# Altium schematic symbol library MI_Personal.SchLib: 995 symbols (part 11 of 12)
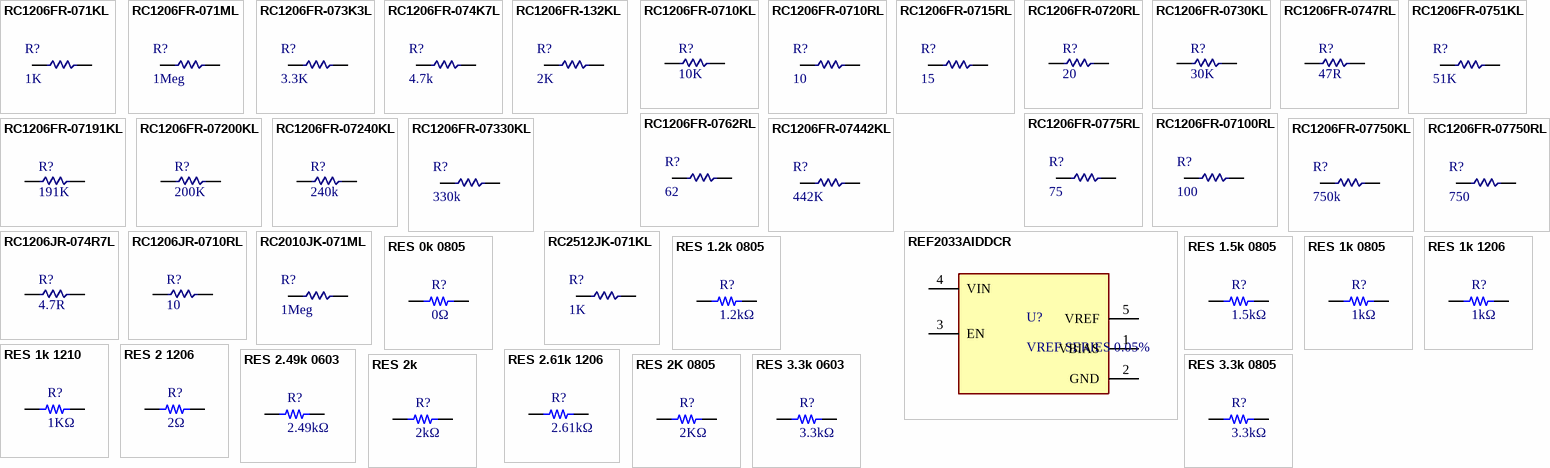
[diagram p37: symbols RC1206FR-071KL to RES 3.3k 0805]

## RES 1k 0805
designator R?, comment 1kΩ
RES SMD 1k 1% 0805; Supplier 1: Makers; Supplier Part Number 1: https://makerselectronics.com/product/chip-resistor-smd-1k%cf%89-%c2%b11-0-125w-%c2%b1100ppm-%e2%84%83-0805; ComponentLink1Description: Makers; ComponentLink1URL: https://makerselectronics.com/product/chip-resistor-smd-1k%cf%89-%c2%b11-0-125w-%c2%b1100ppm-%e2%84%83-0805
footprint RES 0805_2012 (Chip Resistor, 2-Leads, Body 2.00x1.25mm, IPC Medium Density)
pins: 1, 2

## RES 1k 1206
designator R?, comment 1kΩ
RES SMD 1k 1% 1206; Supplier 1: Makers; Supplier Part Number 1: https://makerselectronics.com/product/chip-resistor-smd-1k%cf%89-%c2%b15-0-25w-%c2%b1100ppm-%e2%84%83-1206-chip; ComponentLink1Description: Makers; ComponentLink1URL: https://makerselectronics.com/product/chip-resistor-smd-1k%cf%89-%c2%b15-0-25w-%c2%b1100ppm-%e2%84%83-1206-chip
footprint RES 1206_3216 (Chip Resistor, 2-Leads, Body 3.13x1.55mm, IPC Medium Density)
pins: 1, 2

## RES 1k 1210
designator R?, comment 1KΩ
RES SMD 1K 5% 1210; Supplier 1: Makers; Supplier Part Number 1: https://makerselectronics.com/product/chip-resistor-smd-1k%cf%89-%c2%b15-0-5w-%c2%b1100ppm-%e2%84%83-1210; ComponentLink1Description: Makers; ComponentLink1URL: https://makerselectronics.com/product/chip-resistor-smd-1k%cf%89-%c2%b15-0-5w-%c2%b1100ppm-%e2%84%83-1210
footprint RES 1210_3225 (Chip Resistor, 2-Leads, Body 3.1x2.6mm, IPC Medium Density)
pins: 1, 2

## RES 2 1206
designator R?, comment 2Ω
RES SMD 2 5% 1206; Supplier 1: Makers; Supplier Part Number 1: https://makerselectronics.com/product/chip-resistor-smd-2%cf%89-%c2%b15-250mw-1206/; ComponentLink1Description: Makers; ComponentLink1URL: https://makerselectronics.com/product/chip-resistor-smd-2%cf%89-%c2%b15-250mw-1206/
footprint RES 1206_3216 (Chip Resistor, 2-Leads, Body 3.13x1.55mm, IPC Medium Density)
pins: 1, 2

## RES 2.49k 0603
designator R?, comment 2.49kΩ
RES SMD 2.49k 0.1% 0603; Supplier 1: LCSC; Supplier Part Number 1: C705842
footprint RES 0603_1608
pins: 1, 2

## RES 2.61k 1206
designator R?, comment 2.61kΩ
RES SMD 2.61k 1% 1206; Supplier 1: Makers; Supplier Part Number 1: https://makerselectronics.com/product/chip-resistor-smd-2-61k%cf%89-%c2%b11-250mw-%c2%b1100ppm-%e2%84%83-1206/; ComponentLink1Description: Makers; ComponentLink1URL: https://makerselectronics.com/product/chip-resistor-smd-2-61k%cf%89-%c2%b11-250mw-%c2%b1100ppm-%e2%84%83-1206/
footprint RES 1206_3216 (Chip Resistor, 2-Leads, Body 3.13x1.55mm, IPC Medium Density)
pins: 1, 2

## RES 2k
designator R?, comment 2kΩ
RES SMD 2k 1% 1206; Supplier 1: Makers; Supplier Part Number 1: https://makerselectronics.com/product/chip-resistor-smd-2k%cf%89-%c2%b11-250mw-1206; ComponentLink1Description: Makers; ComponentLink1URL: https://makerselectronics.com/product/chip-resistor-smd-2k%cf%89-%c2%b11-250mw-1206
footprint RES 1206_3216 (Chip Resistor, 2-Leads, Body 3.13x1.55mm, IPC Medium Density)
pins: 1, 2

## RES 2K 0805
designator R?, comment 2KΩ
RES SMD 2K 1% 0805; Supplier 1: Makers; Supplier Part Number 1: https://makerselectronics.com/product/chip-resistor-smd-2k%cf%89-%c2%b11-0-125w-%c2%b1100ppm-%e2%84%83-0805/; ComponentLink1Description: Makers; ComponentLink1URL: https://makerselectronics.com/product/chip-resistor-smd-2k%cf%89-%c2%b11-0-125w-%c2%b1100ppm-%e2%84%83-0805/
footprint RES 0805_2012 (Chip Resistor, 2-Leads, Body 2.00x1.25mm, IPC Medium Density)
pins: 1, 2

## RES 3.3k 0603
designator R?, comment 3.3kΩ
RES SMD 3.3k 1% 0603; Supplier 1: LCSC; Supplier Part Number 1: C2907023
footprint RES 0603_1608
pins: 1, 2

## RES 3.3k 0805
designator R?, comment 3.3kΩ
RES SMD 3.3k 1% 0805; Supplier 1: Makers; Supplier Part Number 1: https://makerselectronics.com/product/chip-resistor-smd-3-3k%cf%89-%c2%b11-0-125w-%c2%b1100ppm-%e2%84%83-0805; ComponentLink1Description: Makers; ComponentLink1URL: https://makerselectronics.com/product/chip-resistor-smd-3-3k%cf%89-%c2%b11-0-125w-%c2%b1100ppm-%e2%84%83-0805
footprint RES 0805_2012 (Chip Resistor, 2-Leads, Body 2.00x1.25mm, IPC Medium Density)
pins: 1, 2

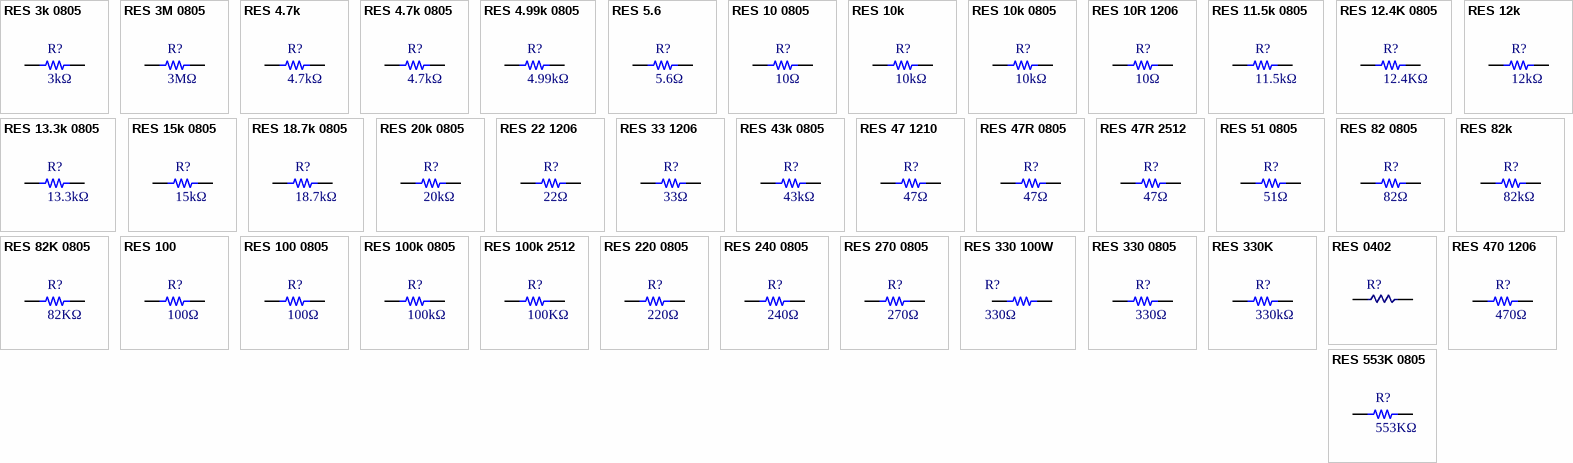
[diagram p20: symbols RES 3k 0805 to RES 553K 0805]

## RES 3k 0805
designator R?, comment 3kΩ
RES SMD 3k 1% 0805; Supplier 1: Makers; Supplier Part Number 1: https://makerselectronics.com/product/chip-resistor-smd-3k%cf%89-%c2%b11-0-125w-%c2%b1100ppm-%e2%84%83-0805; ComponentLink1Description: Makers; ComponentLink1URL: https://makerselectronics.com/product/chip-resistor-smd-3k%cf%89-%c2%b11-0-125w-%c2%b1100ppm-%e2%84%83-0805
footprint RES 0805_2012 (Chip Resistor, 2-Leads, Body 2.00x1.25mm, IPC Medium Density)
pins: 1, 2

## RES 3M 0805
designator R?, comment 3MΩ
RES SMD 3M 5% 0805; Supplier 1: Makers; Supplier Part Number 1: https://makerselectronics.com/product/chip-resistor-smd-3m%cf%89-%c2%b15-0-125w-%c2%b1100ppm-%e2%84%83-0805; ComponentLink1Description: Makers; ComponentLink1URL: https://makerselectronics.com/product/chip-resistor-smd-3m%cf%89-%c2%b15-0-125w-%c2%b1100ppm-%e2%84%83-0805
footprint RES 0805_2012 (Chip Resistor, 2-Leads, Body 2.00x1.25mm, IPC Medium Density)
pins: 1, 2

## RES 4.7k
designator R?, comment 4.7kΩ
RES SMD 4.7k 1% 1206; Supplier 1: Makers; Supplier Part Number 1: https://makerselectronics.com/product/chip-resistor-smd-4-7k%cf%89-%c2%b11-250mw-1206; ComponentLink1Description: Makers; ComponentLink1URL: https://makerselectronics.com/product/chip-resistor-smd-4-7k%cf%89-%c2%b11-250mw-1206
footprint RES 1206_3216 (Chip Resistor, 2-Leads, Body 3.13x1.55mm, IPC Medium Density)
pins: 1, 2

## RES 4.7k 0805
designator R?, comment 4.7kΩ
RES SMD 4.7k 1% 0805; Supplier 1: Makers; Supplier Part Number 1: https://makerselectronics.com/product/chip-resistor-smd-4-7k%cf%89-%c2%b11-0-125w-%c2%b1100ppm-%e2%84%83-0805/; ComponentLink1Description: Makers; ComponentLink1URL: https://makerselectronics.com/product/chip-resistor-smd-4-7k%cf%89-%c2%b11-0-125w-%c2%b1100ppm-%e2%84%83-0805/
footprint RES 0805_2012
pins: 1, 2

## RES 4.99k 0805
designator R?, comment 4.99kΩ
RES SMD 4.99k 1% 0805; Supplier 1: LCSC; Supplier Part Number 1: C2933454
footprint RES 0805_2012 (Chip Resistor, 2-Leads, Body 2.00x1.25mm, IPC Medium Density)
pins: 1, 2

## RES 5.6
designator R?, comment 5.6Ω
RES SMD 5.6 5% 1206; Supplier 1: Makers; Supplier Part Number 1: https://makerselectronics.com/product/chip-resistor-smd-5-6%cf%89-%c2%b11-250mw-1206; ComponentLink1Description: Makers; ComponentLink1URL: https://makerselectronics.com/product/chip-resistor-smd-5-6%cf%89-%c2%b11-250mw-1206
footprint RES 1206_3216 (Chip Resistor, 2-Leads, Body 3.13x1.55mm, IPC Medium Density)
pins: 1, 2

## RES 10 0805
designator R?, comment 10Ω
RES SMD 10R 1% 0805
footprint RES 0805_2012 (Chip Resistor, 2-Leads, Body 2.00x1.25mm, IPC Medium Density)
pins: 1, 2

## RES 10k
designator R?, comment 10kΩ
RES SMD 10k 1% 1206; Supplier 1: Makers; Supplier Part Number 1: https://makerselectronics.com/product/chip-resistor-smd-10k%cf%89-%c2%b11-250mw-1206; ComponentLink1Description: Makers; ComponentLink1URL: https://makerselectronics.com/product/chip-resistor-smd-10k%cf%89-%c2%b11-250mw-1206
footprint RES 1206_3216 (Chip Resistor, 2-Leads, Body 3.13x1.55mm, IPC Medium Density)
pins: 1, 2

## RES 10k 0805
designator R?, comment 10kΩ
RES SMD 10k 1% 0805; Supplier 1: Makers; Supplier Part Number 1: https://makerselectronics.com/product/chip-resistor-smd-10k%cf%89-%c2%b11-0-125w-%c2%b1100ppm-%e2%84%83-0805; ComponentLink1Description: Makers; ComponentLink1URL: https://makerselectronics.com/product/chip-resistor-smd-10k%cf%89-%c2%b11-0-125w-%c2%b1100ppm-%e2%84%83-0805
footprint RES 0805_2012 (Chip Resistor, 2-Leads, Body 2.00x1.25mm, IPC Medium Density)
pins: 1, 2

## RES 10R 1206
designator R?, comment 10Ω
RES SMD 10R 5% 1206; Supplier 1: Makers; Supplier Part Number 1: https://makerselectronics.com/product/chip-resistor-smd-10%cf%89-%c2%b15-250mw-1206; ComponentLink1Description: Makers; ComponentLink1URL: https://makerselectronics.com/product/chip-resistor-smd-10%cf%89-%c2%b15-250mw-1206
footprint RES 1206_3216 (Chip Resistor, 2-Leads, Body 3.13x1.55mm, IPC Medium Density)
pins: 1, 2

## RES 11.5k 0805
designator R?, comment 11.5kΩ
RES SMD 11.5k 1% 0805; Supplier 1: Makers; Supplier Part Number 1: https://makerselectronics.com/product/chip-resistor-smd-11-5k%cf%89-%c2%b11-0-125w-%c2%b1100ppm-%e2%84%83-0805; ComponentLink1Description: Makers; ComponentLink1URL: https://makerselectronics.com/product/chip-resistor-smd-11-5k%cf%89-%c2%b11-0-125w-%c2%b1100ppm-%e2%84%83-0805
footprint RES 0805_2012 (Chip Resistor, 2-Leads, Body 2.00x1.25mm, IPC Medium Density)
pins: 1, 2

## RES 12.4K 0805
designator R?, comment 12.4KΩ
RES SMD 12.4K 1% 0805
footprint RES 0805_2012 (Chip Resistor, 2-Leads, Body 2.00x1.25mm, IPC Medium Density)
pins: 1, 2

## RES 12k
designator R?, comment 12kΩ
RES SMD 12k 1% 1206; Supplier 1: Makers; Supplier Part Number 1: https://makerselectronics.com/product/chip-resistor-smd-12k%cf%89-%c2%b11-250mw-1206; ComponentLink1Description: Makers; ComponentLink1URL: https://makerselectronics.com/product/chip-resistor-smd-12k%cf%89-%c2%b11-250mw-1206
footprint RES 1206_3216 (Chip Resistor, 2-Leads, Body 3.13x1.55mm, IPC Medium Density)
pins: 1, 2

## RES 13.3k 0805
designator R?, comment 13.3kΩ
RES SMD 13.3k 1% 0805
footprint RES 0805_2012 (Chip Resistor, 2-Leads, Body 2.00x1.25mm, IPC Medium Density)
pins: 1, 2

## RES 15k 0805
designator R?, comment 15kΩ
RES SMD 15k 1% 0805; Supplier 1: Makers; Supplier Part Number 1: https://makerselectronics.com/product/chip-resistor-smd-15k%cf%89-%c2%b11-0-125w-%c2%b1100ppm-%e2%84%83-0805; ComponentLink1Description: Makers; ComponentLink1URL: https://makerselectronics.com/product/chip-resistor-smd-15k%cf%89-%c2%b11-0-125w-%c2%b1100ppm-%e2%84%83-0805
footprint RES 0805_2012 (Chip Resistor, 2-Leads, Body 2.00x1.25mm, IPC Medium Density)
pins: 1, 2

## RES 18.7k 0805
designator R?, comment 18.7kΩ
RES SMD 18.7k 1% 0805; Supplier 1: Makers; Supplier Part Number 1: https://makerselectronics.com/product/chip-resistor-smd-18-7k%cf%89-%c2%b11-0-125w-%c2%b1100ppm-%e2%84%83-0805; ComponentLink1Description: Makers; ComponentLink1URL: https://makerselectronics.com/product/chip-resistor-smd-18-7k%cf%89-%c2%b11-0-125w-%c2%b1100ppm-%e2%84%83-0805
footprint RES 0805_2012 (Chip Resistor, 2-Leads, Body 2.00x1.25mm, IPC Medium Density)
pins: 1, 2

## RES 20k 0805
designator R?, comment 20kΩ
RES SMD 20k 1% 0805
footprint RES 0805_2012 (Chip Resistor, 2-Leads, Body 2.00x1.25mm, IPC Medium Density)
pins: 1, 2

## RES 22 1206
designator R?, comment 22Ω
RES SMD 22 5% 1206; Supplier 1: Makers; Supplier Part Number 1: https://makerselectronics.com/product/chip-resistor-smd-22%cf%89-%c2%b15-250mw-1206; ComponentLink1Description: Makers; ComponentLink1URL: https://makerselectronics.com/product/chip-resistor-smd-22%cf%89-%c2%b15-250mw-1206
footprint RES 1206_3216 (Chip Resistor, 2-Leads, Body 3.13x1.55mm, IPC Medium Density)
pins: 1, 2

## RES 33 1206
designator R?, comment 33Ω
RES SMD 33R 1% 1206; Supplier 1: Makers; Supplier Part Number 1: https://makerselectronics.com/product/chip-resistor-smd-30%cf%89-%c2%b11-250mw-1206/; ComponentLink1Description: Makers; ComponentLink1URL: https://makerselectronics.com/product/chip-resistor-smd-30%cf%89-%c2%b11-250mw-1206/
footprint RES 1206_3216 (Chip Resistor, 2-Leads, Body 3.13x1.55mm, IPC Medium Density)
pins: 1, 2

## RES 43k 0805
designator R?, comment 43kΩ
RES SMD 43k 1% 0805; Supplier 1: Makers; Supplier Part Number 1: https://makerselectronics.com/product/chip-resistor-smd-43k%cf%89-%c2%b11-0-125w-0805; ComponentLink1Description: Makers; ComponentLink1URL: https://makerselectronics.com/product/chip-resistor-smd-43k%cf%89-%c2%b11-0-125w-0805
footprint RES 0805_2012 (Chip Resistor, 2-Leads, Body 2.00x1.25mm, IPC Medium Density)
pins: 1, 2

## RES 47 1210
designator R?, comment 47Ω
RES SMD 47R 5% 1210; Supplier 1: Makers; Supplier Part Number 1: https://makerselectronics.com/product/chip-resistor-smd-47%cf%89-%c2%b15-0-5w-%c2%b1100ppm-%e2%84%83-1210/; ComponentLink1Description: Makers; ComponentLink1URL: https://makerselectronics.com/product/chip-resistor-smd-47%cf%89-%c2%b15-0-5w-%c2%b1100ppm-%e2%84%83-1210/
footprint RES 1210_3225 (Chip Resistor, 2-Leads, Body 3.1x2.6mm, IPC Medium Density)
pins: 1, 2

## RES 47R 0805
designator R?, comment 47Ω
RES SMD 47R 1% 0805; ComponentLink1Description: Makers; ComponentLink1URL: https://makerselectronics.com/product/chip-resistor-smd-47%cf%89-%c2%b15-0-125w-%c2%b1100ppm-%e2%84%83-0805/
footprint RES 0805_2012 (Chip Resistor, 2-Leads, Body 2.00x1.25mm, IPC Medium Density)
pins: 1, 2

## RES 47R 2512
designator R?, comment 47Ω
RES SMD 47R 1% 2512; Supplier 1: Makers; Supplier Part Number 1: https://makerselectronics.com/product/chip-resistor-smd-47%cf%89-%c2%b15-1w-%c2%b1100ppm-%e2%84%83-2512/; ComponentLink1Description: Makers; ComponentLink1URL: https://makerselectronics.com/product/chip-resistor-smd-47%cf%89-%c2%b15-1w-%c2%b1100ppm-%e2%84%83-2512/
footprint RES 2512_6332
pins: 1, 2

## RES 51 0805
designator R?, comment 51Ω
RES SMD 51R 1% 0805
footprint RES 0805_2012 (Chip Resistor, 2-Leads, Body 2.00x1.25mm, IPC Medium Density)
pins: 1, 2

## RES 82 0805
designator R?, comment 82Ω
RES SMD 82R 1% 0805
footprint RES 0805_2012 (Chip Resistor, 2-Leads, Body 2.00x1.25mm, IPC Medium Density)
pins: 1, 2

## RES 82k
designator R?, comment 82kΩ
RES SMD 82k 1% 1206; Supplier 1: Makers; Supplier Part Number 1: https://makerselectronics.com/product/chip-resistor-smd-82k%cf%89-%c2%b11-250mw-1206; ComponentLink1Description: Makers; ComponentLink1URL: https://makerselectronics.com/product/chip-resistor-smd-82k%cf%89-%c2%b11-250mw-1206
footprint RES 1206_3216 (Chip Resistor, 2-Leads, Body 3.13x1.55mm, IPC Medium Density)
pins: 1, 2

## RES 82K 0805
designator R?, comment 82KΩ
RES SMD 82K 1% 0805; Supplier 1: Makers; Supplier Part Number 1: https://makerselectronics.com/product/chip-resistor-smd-82k%cf%89-%c2%b11-0-125w-0805/; ComponentLink1Description: Makers; ComponentLink1URL: https://makerselectronics.com/product/chip-resistor-smd-82k%cf%89-%c2%b11-0-125w-0805/
footprint RES 0805_2012 (Chip Resistor, 2-Leads, Body 2.00x1.25mm, IPC Medium Density)
pins: 1, 2

## RES 100
designator R?, comment 100Ω
RES SMD 100R 1% 1206; Supplier 1: Makers; Supplier Part Number 1: https://makerselectronics.com/product/chip-resistor-smd-100%cf%89-%c2%b11-250mw-1206; ComponentLink1Description: Makers; ComponentLink1URL: https://makerselectronics.com/product/chip-resistor-smd-100%cf%89-%c2%b11-250mw-1206
footprint RES 1206_3216 (Chip Resistor, 2-Leads, Body 3.13x1.55mm, IPC Medium Density)
pins: 1, 2

## RES 100 0805
designator R?, comment 100Ω
RES SMD 100R 1% 0805; Supplier 1: Makers; Supplier Part Number 1: https://makerselectronics.com/product/chip-resistor-smd-100%cf%89-%c2%b11-0-125w-%c2%b1100ppm-%e2%84%83-0805; ComponentLink1Description: Makers; ComponentLink1URL: https://makerselectronics.com/product/chip-resistor-smd-100%cf%89-%c2%b11-0-125w-%c2%b1100ppm-%e2%84%83-0805
footprint RES 0805_2012 (Chip Resistor, 2-Leads, Body 2.00x1.25mm, IPC Medium Density)
pins: 1, 2

## RES 100k 0805
designator R?, comment 100kΩ
RES SMD 100k 1% 0805
footprint RES 0805_2012 (Chip Resistor, 2-Leads, Body 2.00x1.25mm, IPC Medium Density)
pins: 1, 2

## RES 100k 2512
designator R?, comment 100KΩ
RES SMD 100K 5% 2512; Supplier 1: Makers; Supplier Part Number 1: https://makerselectronics.com/product/chip-resistor-smd-100k%cf%89-%c2%b15-1w-%c2%b1100ppm-%e2%84%83-2512/; ComponentLink1Description: Makers; ComponentLink1URL: https://makerselectronics.com/product/chip-resistor-smd-100k%cf%89-%c2%b15-1w-%c2%b1100ppm-%e2%84%83-2512/
footprint RES 2512_6332
pins: 1, 2

## RES 220 0805
designator R?, comment 220Ω
RES SMD 220 1% 0805; Supplier 1: Makers; Supplier Part Number 1: https://makerselectronics.com/product/chip-resistor-smd-220%cf%89-%c2%b11-0-125w-%c2%b1100ppm-%e2%84%83-0805; ComponentLink1Description: Makers; ComponentLink1URL: https://makerselectronics.com/product/chip-resistor-smd-220%cf%89-%c2%b11-0-125w-%c2%b1100ppm-%e2%84%83-0805
footprint RES 0805_2012 (Chip Resistor, 2-Leads, Body 2.00x1.25mm, IPC Medium Density)
pins: 1, 2

## RES 240 0805
designator R?, comment 240Ω
RES SMD 240 1% 0805
footprint RES 0805_2012 (Chip Resistor, 2-Leads, Body 2.00x1.25mm, IPC Medium Density)
pins: 1, 2

## RES 270 0805
designator R?, comment 270Ω
RES SMD 270 1% 0805
footprint RES 0805_2012 (Chip Resistor, 2-Leads, Body 2.00x1.25mm, IPC Medium Density)
pins: 1, 2

## RES 330 100W
designator R?, comment 330Ω
RES TH 330 100W; Supplier 1: FREE ELECTRONICS; Supplier Part Number 1: https://free-electronic.com/product/resistor-330-ohm-100w/; ComponentLink1Description: FREE ELECTRONICS; ComponentLink1URL: https://free-electronic.com/product/resistor-330-ohm-100w/
footprint RESISTOR 100W
pins: 1, 2

## RES 330 0805
designator R?, comment 330Ω
RES SMD 330R 1% 0805
footprint RES 0805_2012 (Chip Resistor, 2-Leads, Body 2.00x1.25mm, IPC Medium Density)
pins: 1, 2

## RES 330K
designator R?, comment 330kΩ
RES SMD 330K 1% 1206; Supplier 1: Makers; Supplier Part Number 1: https://makerselectronics.com/product/chip-resistor-smd-330k%cf%89-%c2%b11-250mw-1206; ComponentLink1Description: Makers; ComponentLink1URL: https://makerselectronics.com/product/chip-resistor-smd-330k%cf%89-%c2%b11-250mw-1206
footprint RES 1206_3216 (Chip Resistor, 2-Leads, Body 3.13x1.55mm, IPC Medium Density)
pins: 1, 2

## RES 0402
designator R?
DEFAULT
footprint RES 0402_1005 (Chip Resistor, 2-Leads, Body 1.0x0.5mm, IPC Medium Density)
pins: 1 A, 2 B

## RES 470 1206
designator R?, comment 470Ω
RES SMD 470R 1% 1206
footprint RES 1206_3216 (Chip Resistor, 2-Leads, Body 3.13x1.55mm, IPC Medium Density)
pins: 1, 2

## RES 553K 0805
designator R?, comment 553KΩ
RES SMD 553K 1% 0805
footprint RES 0805_2012 (Chip Resistor, 2-Leads, Body 2.00x1.25mm, IPC Medium Density)
pins: 1, 2

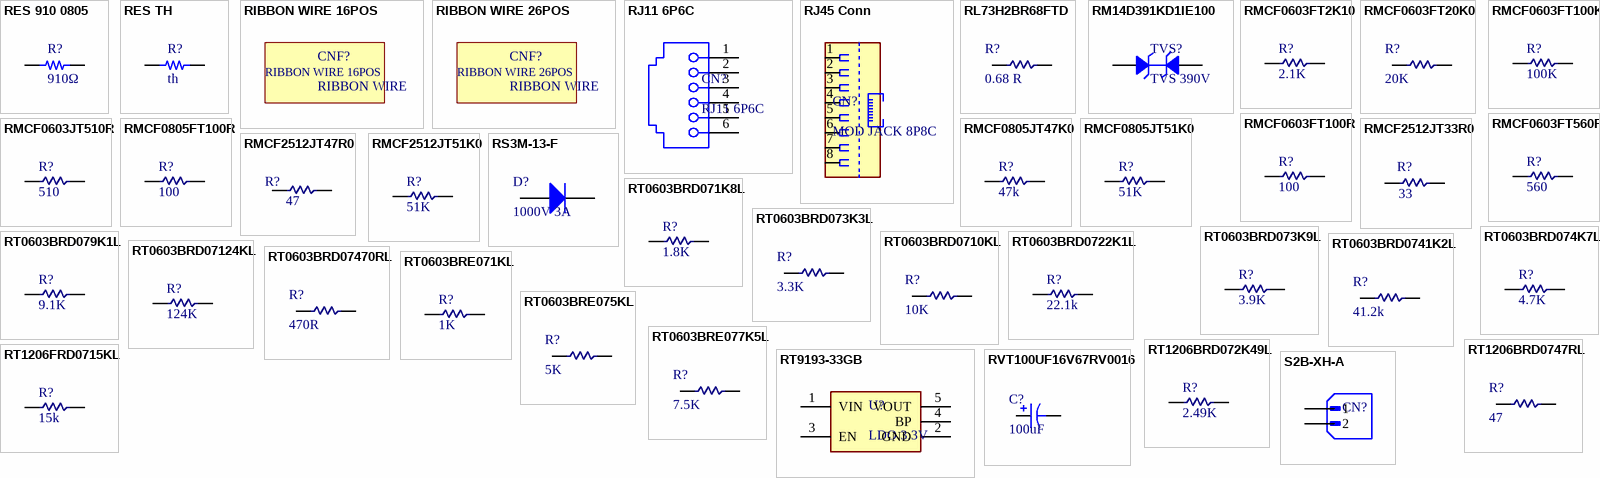
[diagram p21: symbols RES 910 0805 to S2B-XH-A]

## RES 910 0805
designator R?, comment 910Ω
RES SMD 910 1% 0805
footprint RES 0805_2012 (Chip Resistor, 2-Leads, Body 2.00x1.25mm, IPC Medium Density)
pins: 1, 2

## RES TH
designator R?, comment th
RES TH 7.62mm
footprint RES TH 7.62
pins: 1, 2

## RIBBON WIRE 16POS
designator CNF?, comment RIBBON WIRE  (mechanical)
MECH RIBBON WIRE 16POS; Supplier 1: RAM; Supplier Part Number 1: https://www.ram-e-shop.com/shop/flat-cable-gray-16p-grey-16-pin-dupont-flat-ribbon-cable-1-meter-6593; ComponentLink1Description: RAM; ComponentLink1URL: https://www.ram-e-shop.com/shop/flat-cable-gray-16p-grey-16-pin-dupont-flat-ribbon-cable-1-meter-6593

## RIBBON WIRE 26POS
designator CNF?, comment RIBBON WIRE  (mechanical)
MECH RIBBON WIRE 26POS; ComponentLink1Description: MAKERS; ComponentLink1URL: https://makerselectronics.com/product/grey-flat-ribbon-cable-1-meter-1-27mm/

## RJ11 6P6C
designator CN?
CONN MOD JACK 6P6C R/A UNSHLD; Supplier 1: MAKERS; Supplier Part Number 1: https://makerselectronics.com/product/rj11-female-pcb-socket-6-pin/; ComponentLink1Description: MAKERS; ComponentLink1URL: https://makerselectronics.com/product/rj11-female-pcb-socket-6-pin/
footprint Jack Modular Connector 6p6c (Modular Jack Horizontal Plastic 6P6C Tab Up)
pins: 1, 2, 3, 4, 5, 6

## RJ45 Conn
designator CN?, comment MOD JACK 8P8C
CONN MOD JACK 8P8C R/A UNSHLD; Supplier 1: MAKERS; Supplier Part Number 1: https://makerselectronics.com/product/ethernet-rj45-connector; ComponentLink1Description: MAKERS; ComponentLink1URL: https://makerselectronics.com/product/ethernet-rj45-connector
footprint CONN RJ45 C8B8
pins: 1 TX+, 2 TX-, 3 RX+, 4 DC+, 5 DC-, 6 RX-, 7 DD+, 8 DD-

## RL73H2BR68FTD
designator R?, comment 0.68 R
RES SMD 0.68 OHM 1% 1/4W 1206; Supplier 1: Digikey; Supplier Part Number 1: A138541CT-ND; Supplier 2: LCSC; Supplier Part Number 2: C2934296; Supplier 3: Digikey; Supplier Part Number 3: 118-CRM1206-FX-R680ELFCT-ND; Supplier 4: LCSC; Supplier Part Number 4: C705571
footprint RES 1206_3216 (Chip Resistor, 2-Leads, Body 3.13x1.55mm, IPC Medium Density)
pins: 1 A, 2 B

## RM14D391KD1IE100
designator TVS?, comment TVS 390V
VARISTOR 390V 4500A P=7.5mm; Supplier 1: LCSC; Supplier Part Number 1: C2761681; ComponentLink1Description: Makers; ComponentLink1URL: https://makerselectronics.com/product/metal-oxide-varistor-mov-14d391k
footprint MOV-14D391K
pins: 1, 2

## RMCF0603FT2K10
designator R?, comment 2.1K
RES SMD 2.1K OHM 1% 1/10W 0603; Supplier 1: Digikey; Supplier Part Number 1: RMCF0603FT2K10CT-ND; Supplier 2: LCSC; Supplier Part Number 2: C245950; Supplier 3: Digikey; Supplier Part Number 3: 311-2.10KHRCT-ND; Supplier 4: LCSC; Supplier Part Number 4: C245950
footprint RES 0603_1608 (Chip Resistor, 2-Leads, Body 1.60x0.80mm, IPC Medium Density)
pins: 1 A, 2 B

## RMCF0603FT20K0
designator R?, comment 20K
RES SMD 20K OHM 1% 1/10W 0603; Supplier 1: Digikey; Supplier Part Number 1: RMCF0603FT20K0CT-ND; Supplier 2: LCSC; Supplier Part Number 2: C4333405; Supplier 3: Digikey; Supplier Part Number 3: 311-20.0KHRCT-ND; Supplier 4: LCSC; Supplier Part Number 4: C105575
footprint RES 0603_1608 (Chip Resistor, 2-Leads, Body 1.60x0.80mm, IPC Medium Density)
pins: 1 A, 2 B

## RMCF0603FT100K
designator R?, comment 100K
RES SMD 100K OHM 1% 1/10W 0603; Supplier 1: DigiKey; Supplier Part Number 1: RMCF0603FT100KCT-ND; Supplier 2: LCSC; Supplier Part Number 2: C189597
footprint RES 0603_1608 (Chip Resistor, 2-Leads, Body 1.60x0.80mm, IPC Medium Density)
pins: 1 A, 2 B

## RMCF0603FT100R
designator R?, comment 100
RES SMD 100 OHM 1% 1/10W 0603; Supplier 1: Digikey; Supplier Part Number 1: RMCF0603FT100RCT-ND; Supplier 2: LCSC; Supplier Part Number 2: C105588
footprint RES 0603_1608 (Chip Resistor, 2-Leads, Body 1.60x0.80mm, IPC Medium Density)
pins: 1 A, 2 B

## RMCF0603FT560R
designator R?, comment 560
RES SMD 560 OHM 1% 1/10W 0603; Supplier 1: Digikey; Supplier Part Number 1: 738-RMCF0603FT560RCT-ND; Supplier 2: LCSC; Supplier Part Number 2: C403275; Supplier 3: Digikey; Supplier Part Number 3: 311-560HRCT-ND; Supplier 4: LCSC; Supplier Part Number 4: C114629
footprint RES 0603_1608 (Chip Resistor, 2-Leads, Body 1.60x0.80mm, IPC Medium Density)
pins: 1 A, 2 B

## RMCF0603JT510R
designator R?, comment 510
RES SMD 510 OHM 5% 1/8W 0603; Supplier 1: Digikey; Supplier Part Number 1: RMCF0603JT510RCT-ND; Supplier 2: LCSC; Supplier Part Number 2: C403508
footprint RES 0603_1608 (Chip Resistor, 2-Leads, Body 1.60x0.80mm, IPC Medium Density)
pins: 1 A, 2 B

## RMCF0805FT100R
designator R?, comment 100
RES SMD 100 OHM 1% 1/8W 0805; Supplier 1: Digikey; Supplier Part Number 1: RMCF0805FT100RCT-ND; Supplier 2: LCSC; Supplier Part Number 2: C237122; Supplier 3: Digikey; Supplier Part Number 3: 311-100CRCT-ND; Supplier 4: LCSC; Supplier Part Number 4: C105577
footprint RES 0603_1608 (Chip Resistor, 2-Leads, Body 1.60x0.80mm, IPC Medium Density)
pins: 1 A, 2 B

## RMCF0805JT47K0
designator R?, comment 47k
RES SMD 47K OHM 5% 1/8W 0805; Supplier 1: DigiKey; Supplier Part Number 1: RMCF0805JT47K0CT-ND; Supplier 2: LCSC; Supplier Part Number 2: C237768; Supplier 3: Digikey; Supplier Part Number 3: 311-47.0KCRCT-ND; Supplier 4: LCSC; Supplier Part Number 4: C126351
footprint RES 0805_2012 (Chip Resistor, 2-Leads, Body 2.00x1.25mm, IPC Medium Density)
pins: 1 A, 2 B

## RMCF0805JT51K0
designator R?, comment 51K
RES SMD 51K OHM 5% 1/8W 0805; Supplier 1: Digikey; Supplier Part Number 1: RMCF0805JT51K0CT-ND; Supplier 2: LCSC; Supplier Part Number 2: C237139; Supplier 3: Digikey; Supplier Part Number 3: 311-51.0KCRCT-ND; Supplier 4: LCSC; Supplier Part Number 4: C107233
footprint RES 0805_2012 (Chip Resistor, 2-Leads, Body 2.00x1.25mm, IPC Medium Density)
pins: 1 A, 2 B

## RMCF2512JT33R0
designator R?, comment 33
RES SMD 33 OHM 5% 1W 2512; Supplier 1: Digikey; Supplier Part Number 1: RMCF2512JT33R0CT-ND; Supplier 2: LCSC; Supplier Part Number 2: C2934070; Supplier 3: Digikey; Supplier Part Number 3: 13-RC2512JK-0733RLCT-ND; Supplier 4: LCSC; Supplier Part Number 4: C375687
footprint RES 2512_6332 (Chip Resistor, 2-Leads, Body 6.30x3.20mm, IPC Medium Density)
pins: 1 A, 2 B

## RMCF2512JT47R0
designator R?, comment 47
RES SMD 47 OHM 5% 1W 2512; Supplier 1: Digikey; Supplier Part Number 1: RMCF2512JT47R0CT-ND; Supplier 2: LCSC; Supplier Part Number 2: C3000771; Supplier 3: Digikey; Supplier Part Number 3: YAG3404CT-ND; Supplier 4: LCSC; Supplier Part Number 4: C513678
footprint RES 2512_6332 (Chip Resistor, 2-Leads, Body 6.30x3.20mm, IPC Medium Density)
pins: 1 A, 2 B

## RMCF2512JT51K0
designator R?, comment 51K
RES SMD 51K OHM 5% 1W 2512; Supplier 1: Digikey; Supplier Part Number 1: RMCF2512JT51K0CT-ND; Supplier 2: LCSC; Supplier Part Number 2: C2934123; Supplier 3: Digikey; Supplier Part Number 3: 13-RC2512JK-0751KLCT-ND; Supplier 4: LCSC; Supplier Part Number 4: C470034
footprint RES 2512_6332 (Chip Resistor, 2-Leads, Body 6.30x3.20mm, IPC Medium Density)
pins: 1 A, 2 B

## RS3M-13-F
designator D?, comment 1000V 3A
DIODE STANDARD 1000V 3A SMC; Supplier 1: Digikey; Supplier Part Number 1: RS3M-FDICT-ND; Supplier 2: LCSC; Supplier Part Number 2: C460932; Supplier 3: Digikey; Supplier Part Number 3: 1655-RS3MCT-ND; Supplier 4: LCSC; Supplier Part Number 4: C330389
footprint DO214AB SMC (Molded Diode, 2-Leads, Body 6.85x5.90mm, IPC Medium Density)
pins: 1 A, 2 K

## RT0603BRD071K8L
designator R?, comment 1.8K
RES SMD 1.8K OHM 0.1% 1/10W 0603; Supplier 1: Digikey; Supplier Part Number 1: YAG1575CT-ND; Supplier 2: LCSC; Supplier Part Number 2: C705745; Supplier 3: Digikey; Supplier Part Number 3: P1.8KDBCT-ND; Supplier 4: LCSC; Supplier Part Number 4: C473233
footprint RES 0603_1608 (Chip Resistor, 2-Leads, Body 1.60x0.80mm, IPC Medium Density)
pins: 1 A, 2 B

## RT0603BRD073K3L
designator R?, comment 3.3K
RES SMD 3.3K OHM 0.1% 1/10W 0603; Supplier 1: DigiKey; Supplier Part Number 1: YAG1652CT-ND; Supplier 2: LCSC; Supplier Part Number 2: C309653
footprint RES 0603_1608 (Chip Resistor, 2-Leads, Body 1.60x0.80mm, IPC Medium Density)
pins: 1 A, 2 B

## RT0603BRD073K9L
designator R?, comment 3.9K
RES SMD 3.9K OHM 0.1% 1/10W 0603; Supplier 1: Digikey; Supplier Part Number 1: YAG1656CT-ND; Supplier 2: LCSC; Supplier Part Number 2: C728592; Supplier 3: Digikey; Supplier Part Number 3: P3.9KDBCT-ND; Supplier 4: LCSC; Supplier Part Number 4: C473237
footprint RES 0603_1608 (Chip Resistor, 2-Leads, Body 1.60x0.80mm, IPC Medium Density)
pins: 1 A, 2 B

## RT0603BRD074K7L
designator R?, comment 4.7K
RES SMD 4.7K OHM 0.1% 1/10W 0603; Supplier 1: DigiKey; Supplier Part Number 1: YAG1676CT-ND; Supplier 2: LCSC; Supplier Part Number 2: C513565; Supplier 3: Digikey; Supplier Part Number 3: P4.7KDBCT-ND; Supplier 4: LCSC; Supplier Part Number 4: C473239
footprint RES 0603_1608 (Chip Resistor, 2-Leads, Body 1.60x0.80mm, IPC Medium Density)
pins: 1 A, 2 B

## RT0603BRD079K1L
designator R?, comment 9.1K
RES SMD 9.1K OHM 0.1% 1/10W 0603; Supplier 1: Digikey; Supplier Part Number 1: YAG1756CT-ND; Supplier 2: LCSC; Supplier Part Number 2: C861612; Supplier 3: Digikey; Supplier Part Number 3: P9.1KDBCT-ND; Supplier 4: LCSC; Supplier Part Number 4: C491147
footprint RES 0603_1608 (Chip Resistor, 2-Leads, Body 1.60x0.80mm, IPC Medium Density)
pins: 1 A, 2 B

## RT0603BRD0710KL
designator R?, comment 10K
RES SMD 10K OHM 0.1% 1/10W 0603; Supplier 1: DigiKey; Supplier Part Number 1: YAG1236CT-ND; Supplier 2: LCSC; Supplier Part Number 2: C95204; Supplier 3: Digikey; Supplier Part Number 3: P20086CT-ND; Supplier 4: LCSC; Supplier Part Number 4: C309083
footprint RES 0603_1608 (Chip Resistor, 2-Leads, Body 1.60x0.80mm, IPC Medium Density)
pins: 1 A, 2 B

## RT0603BRD0722K1L
designator R?, comment 22.1k
RES SMD 22.1KOHM 0.1% 1/10W 0603; Supplier 1: Digikey; Supplier Part Number 1: P22.1KDBCT-ND; Supplier 2: LCSC; Supplier Part Number 2: C723484
footprint RES 0603_1608 (Chip Resistor, 2-Leads, Body 1.60x0.80mm, IPC Medium Density)
pins: 1 A, 2 B

## RT0603BRD0741K2L
designator R?, comment 41.2k
RES SMD 41.2KOHM 0.1% 1/10W 0603; Supplier 1: Digikey; Supplier Part Number 1: YAG4553CT-ND; Supplier 2: LCSC; Supplier Part Number 2: C705776; Supplier 3: Digikey; Supplier Part Number 3: P20155CT-ND; Supplier 4: LCSC; Supplier Part Number 4: C2684548
footprint RES 0603_1608 (Chip Resistor, 2-Leads, Body 1.60x0.80mm, IPC Medium Density)
pins: 1 A, 2 B

## RT0603BRD07124KL
designator R?, comment 124K
RES SMD 124K OHM 0.1% 1/10W 0603; Supplier 1: Digikey; Supplier Part Number 1: YAG1515CT-ND; Supplier 2: LCSC; Supplier Part Number 2: C861097
footprint RES 0603_1608 (Chip Resistor, 2-Leads, Body 1.60x0.80mm, IPC Medium Density)
pins: 1 A, 2 B

## RT0603BRD07470RL
designator R?, comment 470R
RES SMD 470 OHM 0.1% 1/10W 0603; Supplier 1: Digikey; Supplier Part Number 1: P470DBCT-ND; Supplier 2: LCSC; Supplier Part Number 2: C705779
footprint RES 0603_1608
pins: 1 A, 2 B

## RT0603BRE071KL
designator R?, comment 1K
RES SMD 1K OHM 0.1% 1/10W 0603; Supplier 1: Digikey; Supplier Part Number 1: YAG2314CT-ND; Supplier 2: LCSC; Supplier Part Number 2: C513397; Supplier 3: Digikey; Supplier Part Number 3: P1.0KDBCT-ND; Supplier 4: LCSC; Supplier Part Number 4: C190613
footprint RES 0603_1608 (Chip Resistor, 2-Leads, Body 1.60x0.80mm, IPC Medium Density)
pins: 1 A, 2 B

## RT0603BRE075KL
designator R?, comment 5K
RES SMD 5K OHM 0.1% 1/10W 0603; ComponentLink1Description: DIGIKEY; ComponentLink1URL: https://www.digikey.com/en/products/detail/yageo/RT0603BRE075KL/7708365; ComponentLink2Description: LCSC; ComponentLink2URL: https://www.lcsc.com/product-detail/Chip-Resistor-Surface-Mount_YAGEO-RC1206FR-07442KL_C488856.html; Supplier 1: Digikey; Supplier Part Number 1: 13-RT0603BRE075KLCT-ND; Supplier 2: LCSC; Supplier Part Number 2: C862232; Supplier 3: LCSC; Supplier Part Number 3: C3202451; Supplier 4: LCSC; Supplier Part Number 4: C2828621
footprint RES 0603_1608 (Chip Resistor, 2-Leads, Body 1.60x0.80mm, IPC Medium Density)
pins: 1 A, 2 B

## RT0603BRE077K5L
designator R?, comment 7.5K
RES SMD 7.5K OHM 0.1% 1/10W 0603; ComponentLink1Description: DIGIKEY; ComponentLink1URL: https://www.digikey.com/en/products/detail/yageo/RT0603BRE077K5L/1073161?s=N4IgTCBcDaIEoBUAMA2JBmAQnAokg7PgNICsAMiALoC%2BQA; ComponentLink2Description: LCSC; ComponentLink2URL: https://www.lcsc.com/product-detail/Chip-Resistor-Surface-Mount_YAGEO-RT0603BRE077K5L_C705880.html; Supplier 1: Digikey; Supplier Part Number 1: YAG4777CT-ND; Supplier 2: LCSC; Supplier Part Number 2: C705880; Supplier 3: Digikey; Supplier Part Number 3: TNP7.50KAACT-ND; Supplier 4: LCSC; Supplier Part Number 4: C1862499
footprint RES 0603_1608 (Chip Resistor, 2-Leads, Body 1.60x0.80mm, IPC Medium Density)
pins: 1 A, 2 B

## RT1206BRD072K49L
designator R?, comment 2.49K
RES SMD 2.49K OHM 1% 1/4W 1206; Supplier 2: LCSC; Supplier Part Number 2: C870626; Supplier 1: Digikey; Supplier Part Number 1: YAG2034CT-ND
footprint RES 1206_3216 (Chip Resistor, 2-Leads, Body 3.13x1.55mm, IPC Medium Density)
pins: 1 A, 2 B

## RT1206BRD0747RL
designator R?, comment 47
RES SMD 47 OHM 0.1% 1/4W 1206; ComponentLink1Description: DIGIKEY; ComponentLink1URL: https://www.digikey.com/en/products/detail/yageo/RT1206BRD0747RL/1079841?s=N4IgTCBcDaIEoBUCMYAMA2AQnAIqg7ACz5wAyIAugL5A; ComponentLink2Description: LCSC; ComponentLink2URL: https://www.lcsc.com/product-detail/Chip-Resistor-Surface-Mount_YAGEO-RT1206BRD0747RL_C870760.html; Supplier 1: Digikey; Supplier Part Number 1: 13-RT1206BRD0747RLCT-ND; Supplier 2: LCSC; Supplier Part Number 2: C351464; Supplier 3: Digikey; Supplier Part Number 3: P47BCCT-ND; Supplier 4: LCSC; Supplier Part Number 4: C319585
footprint RES 1206_3216 (Chip Resistor, 2-Leads, Body 3.13x1.55mm, IPC Medium Density)
pins: 1 A, 2 B

## RT1206FRD0715KL
designator R?, comment 15k
RES SMD 15K OHM 1% 1/4W 1206; Supplier 1: DigiKey; Supplier Part Number 1: 738-RMCF1206FG15K0CT-ND; Supplier 2: LCSC; Supplier Part Number 2: C136874
footprint RES 1206_3216
pins: 1 A, 2 B

## RT9193-33GB
designator U?, comment LDO 3.3V
IC LDO Positive Fixed 1 Output 300mA TSOT-23-5; Supplier 1: UGE; Supplier Part Number 1: https://uge-one.com/product/rt9193-33gb-3-3v-300ma-ultra-low-noise-ultra-fast-cmos-ldo-sot23-5/; ComponentLink1Description: UGE; ComponentLink1URL: https://uge-one.com/product/rt9193-33gb-3-3v-300ma-ultra-low-noise-ultra-fast-cmos-ldo-sot23-5/
footprint SOT-23-5
pins: 1 VIN, 2 GND (power), 3 EN, 4 BP, 5 VOUT

## RVT100UF16V67RV0016
designator C?, comment 100uF
CAP ALUM 100UF 20% 16V SMD; Supplier 1: Digikey; Supplier Part Number 1: PCE3783CT-ND; Supplier 2: LCSC; Supplier Part Number 2: C2887276
footprint CAP ALSMD ELEC 6.6MM H5.4MM (Aluminum SMD Electrolytic Capacitor, 6.60mm Land Size, 6.30mm Diameter, 5.40mm Height, 8.00mm Maximum Leads Span)
pins: 1, 2

## S2B-XH-A
designator CN?, comment CONN HEADER R/A 2POS 2.5MM  (value not drawn)
ComponentLink1Description: makers; ComponentLink1URL: https://makerselectronics.com/product/s2b-xh-a-1-jst-xh-2-pin-header-2-5mm/; Supplier 1: LCSC; Supplier Part Number 1: C157931
footprint JST_S2B-XH-A
pins: 1, 2

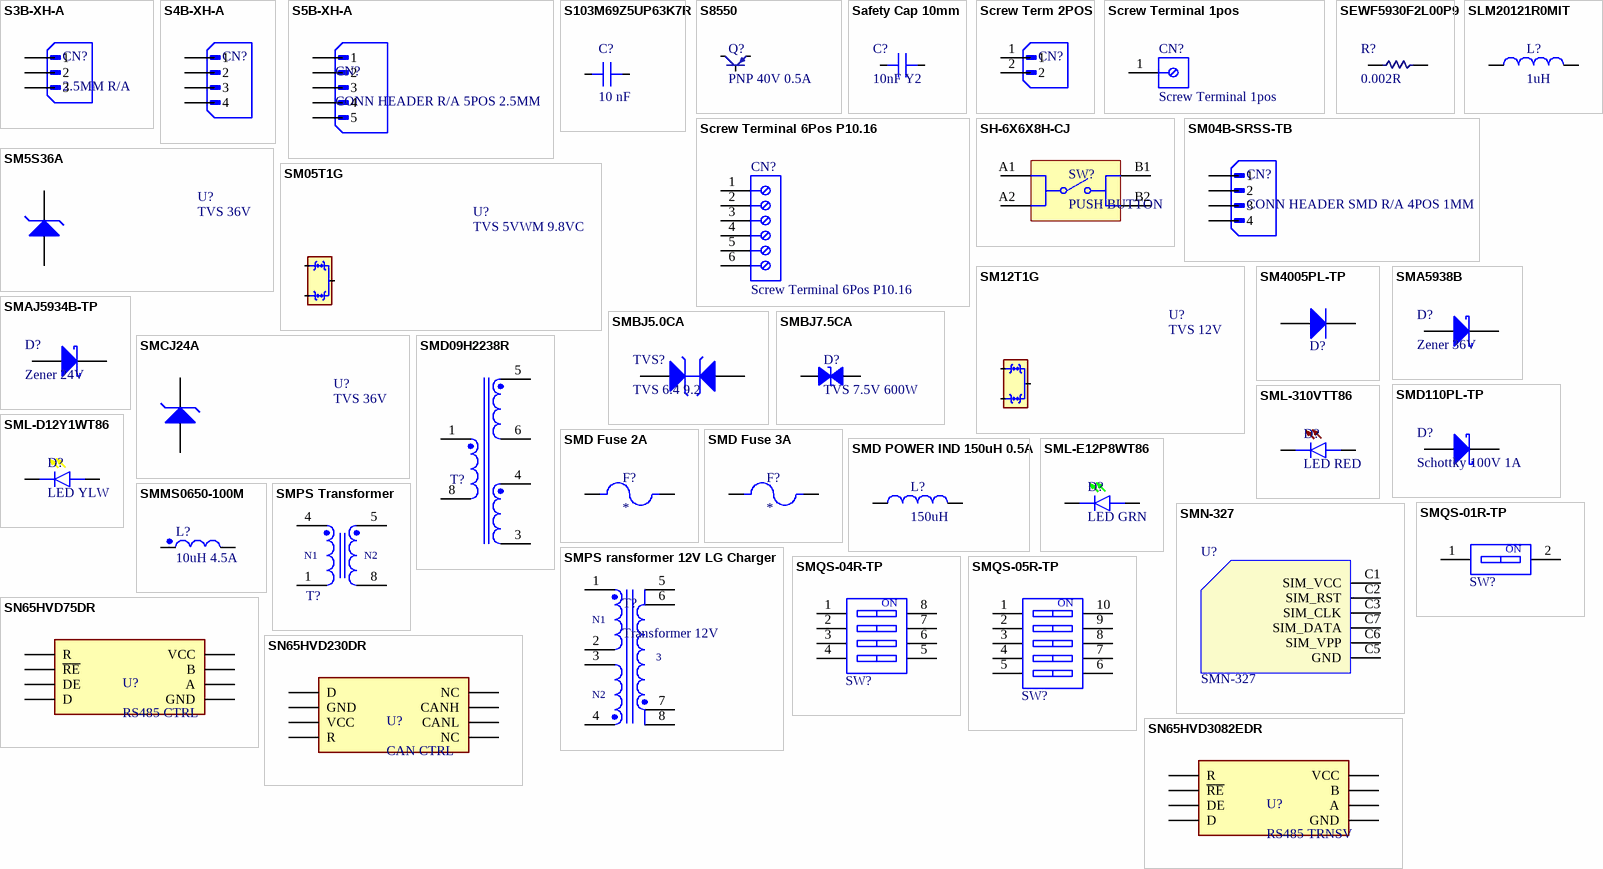
[diagram p22: symbols S3B-XH-A to SN65HVD3082EDR]

## S3B-XH-A
designator CN?, comment 2.5MM R/A
CONN HEADER R/A 3POS 2.5MM; Supplier 1: LCSC; Supplier Part Number 1: C157928
footprint JST_S3B-XH-A
pins: 1, 2, 3

## S4B-XH-A
designator CN?, comment CONN HEADER R/A 4POS 2.5MM  (value not drawn)
Supplier 1: LCSC; Supplier Part Number 1: C157925
footprint JST_S4B-XH-A
pins: 1, 2, 3, 4

## S5B-XH-A
designator CN?, comment CONN HEADER R/A 5POS 2.5MM
Supplier 1: LCSC; Supplier Part Number 1: C263757
footprint JST_S5B-XH-A
pins: 1, 2, 3, 4, 5

## S103M69Z5UP63K7R
designator C?, comment 10 nF
CAP CER 10000PF 2KV Z5U RADIAL; Supplier 1: DigiKey; Supplier Part Number 1: 1256PH-ND; Supplier 2: LCSC; Supplier Part Number 2: C1619966; Supplier 3: Digikey; Supplier Part Number 3: 445-174367-ND; Supplier 4: LCSC; Supplier Part Number 4: C114193
footprint CAP CER RADIAL P=7.5mm
pins: 1, 2

## S8550
designator Q?, comment PNP 40V 0.5A
TRANS PNP 40V 0.5A SOT-23-3; Supplier 1: UGE; Supplier Part Number 1: https://uge-one.com/product/s8550-2ty-sot23-general-purpose-pnp-smd-transistor-sot-23/; ComponentLink1Description: UGE; ComponentLink1URL: https://uge-one.com/product/s8550-2ty-sot23-general-purpose-pnp-smd-transistor-sot-23/
footprint SOT23-3 (SOT23-3, BAT54, DIODES INC)
pins: 1 B, 2 E, 3 C

## Safety Cap 10mm
designator C?, comment 10nF Y2
CAP CER 10NF X1/Y2 440V/300V; Supplier 1: Made In China; Supplier Part Number 1: https://topmayelectronic.en.made-in-china.com/product/VKXnBFdvpgWc/China-10NF-250VAC-Y2-Safety-Type-Ceramic-Disc-Capacitor.html?pv_id=1ik9e91r7909&faw_id=1ik9e9cdj893
footprint Cer Th Cap 10mm
pins: 1, 2

## Screw Term 2POS
designator CN?, comment CONN Screw Term  (value not drawn)
CONN Screw terminal 2Pos 5.08Pitch; Supplier 1: makers; Supplier Part Number 1: https://makerselectronics.com/product/pluggable-terminal-block-2-pin-5-08mm; ComponentLink1Description: makers; ComponentLink1URL: https://makerselectronics.com/product/pluggable-terminal-block-2-pin-5-08mm
footprint Conn Screw terminal 2 pos 5.08 pitch
pins: 1, 2

## Screw Terminal 1pos
designator CN?
CONN Screw Terminal H40 20A THT, pitch 10.16mm, 01p
footprint Screw Terminal P10.16 20A H45 (Horizontal Cable Entry with Rising Cage Clamp, pitch 10.16mm, 01p)
pins: 1

## Screw Terminal 6Pos P10.16
designator CN?
CONN H30 52A, THT, pitch 10.16mm, 06p
footprint Screw terminal P10.16 52A H29.3 (10.16mm Horizontal Cable Entry with Rising Cage Clamp, 06p)
pins: 1, 2, 3, 4, 5, 6

## SEWF5930F2L00P9
designator R?, comment 0.002R
RES SMD 2 mOHM 1% 8W 5930; Supplier 1: DigiKey; Supplier Part Number 1: 4506-SEWF5930F2L00P9CT-ND; Supplier 2: LCSC; Supplier Part Number 2: C19078211
footprint RES 5930 SHUNT RESIST
pins: 1 A, 2 B

## SH-6X6X8H-CJ
designator SW?, comment PUSH BUTTON
SWITCH PUSH BUTTON 2X2 6X6X9.5MM; Supplier 1: LCSC; Supplier Part Number 1: C42416249; ComponentLink1Description: MAKERS; ComponentLink1URL: https://makerselectronics.com/product/mini-push-button-4-pin-6x6x9-5mm
footprint Tact Switch 6X6X9.5MM (6x6mm Tact Switch, THT version)
pins: A1, A2, B1, B2

## SLM20121R0MIT
designator L?, comment 1uH
FIXED IND SMD 1uH 1A 150mΩ 0805; Supplier 1: LCSC; Supplier Part Number 1: C216155
footprint IND 0805
pins: 1, 2

## SM04B-SRSS-TB
designator CN?, comment CONN HEADER SMD R/A 4POS 1MM
Supplier 1: LCSC; Supplier Part Number 1: C51940130
footprint JST-SM04B-SRSS-TB
pins: 1, 2, 3, 4

## SM5S36A
designator U?, comment TVS 36V
DIODE TVS 36VWM 58.1VC 3.6KW DO-218AB; Supplier 1: DigiKey; Supplier Part Number 1: SM5S36AHE3_A/IGICT-ND; Supplier 2: LCSC; Supplier Part Number 2: C2983274
footprint DO-218AB
pins: A, C K

## SM05T1G
designator U?, comment TVS 5VWM 9.8VC
DIODE TVS 5VWM 9.8VC SOT-23; Supplier 1: LCSC; Supplier Part Number 1: C111172
footprint SOT23-3 (SOT23-3, BAT54, DIODES INC)
pins: 1, 2, 3

## SM12T1G
designator U?, comment TVS 12V
DIODE TVS 12VWM 19VC SOT-23; Supplier 1: DigiKey; Supplier Part Number 1: CDSOT23-SM712DKR-ND; Supplier 2: LCSC; Supplier Part Number 2: C404012
footprint SOT23-3 (SOT23-3, BAT54, DIODES INC)
pins: 1, 2, 3

## SM4005PL-TP
designator D?, comment DIODE GEN PURP 600V 1A SOD123FL  (value not drawn)
Supplier 1: Digikey; Supplier Part Number 1: SM4005PL-TPMSCT-ND; Supplier 2: LCSC; Supplier Part Number 2: C402241; Supplier 3: Digikey; Supplier Part Number 3: 1801-S1MFLCT-ND; Supplier 4: LCSC; Supplier Part Number 4: C2892678
footprint SOD-123FL (SODFL, 2-Leads, Body 1.65x3.58mm, IPC Medium Density)
pins: 1 A, 2 K

## SMA5938B
designator D?, comment Zener 36V
DIODE ZENER 36VV 1.5W SMA(DO-214AC); Supplier 1: DigiKey; Supplier Part Number 1: SZ1SMA5938BT3GOSCT-ND; Supplier 2: LCSC; Supplier Part Number 2: C341112
footprint DO-214AC (SMA)
pins: 1 A, 2 K

## SMAJ5934B-TP
designator D?, comment Zener 24V
DIODE ZENER 24V 1.5W SMA(DO-214AC); Supplier 1: DigiKey; Supplier Part Number 1: SMAJ5934BTPMSCT-ND; Supplier 2: LCSC; Supplier Part Number 2: C721388
footprint DO-214AC (SMA)
pins: 1 A, 2 K

## SMBJ5.0CA
designator TVS?, comment TVS 6.4 9.2
DIODE TVS 6.4V 9.2V; Supplier 2: LCSC; Supplier Part Number 2: C908835
footprint DO214AA SMB (Molded Diode, 2-Leads, Body 4.31x3.62mm, IPC Medium Density)
pins: 1 A, 2 K

## SMBJ7.5CA
designator D?, comment TVS 7.5V 600W
DIODE TVS 7.5VWM 12.9V DO214AA; Supplier 1: UGE; Supplier Part Number 1: https://uge-one.com/product/smd-tvs-esd-transient-voltage-protection-diode-smbj7-5ca-series-600w-smb-do-214aa/; ComponentLink1Description: UGE; ComponentLink1URL: https://uge-one.com/product/smd-tvs-esd-transient-voltage-protection-diode-smbj7-5ca-series-600w-smb-do-214aa/
footprint DO214AA SMB (Molded Diode, 2-Leads, Body 4.31x3.62mm, IPC Medium Density)
pins: 1, 2

## SMCJ24A
designator U?, comment TVS 36V
DIODE TVS 24VWM 38.9VC SMC(DO-214AB); Supplier 1: DigiKey; Supplier Part Number 1: SMCJ24ALFCT-ND; Supplier 2: LCSC; Supplier Part Number 2: C284096
footprint DO-214AB SMC
pins: 1 A, 2 K

## SMD09H2238R
designator T?, comment Pulse Transformer  (value not drawn)
TRANSFORMERSMD-6P,9.7x9.5mm Power Transformers ROHS 1:1:1; Supplier 1: LCSC; Supplier Part Number 1: C5358223
footprint Transformer ISO SMD09H2238R (Footprint not found)
pins: 1, 3, 4, 5, 6, 8

## SMD110PL-TP
designator D?, comment Schottky 100V 1A
DIODE SCHOTTKY 100V 1A SOD123FL; Supplier 1: Digikey; Supplier Part Number 1: SMD110PL-TPMSCT-ND; Supplier 2: LCSC; Supplier Part Number 2: C908663; Supplier 3: Digikey; Supplier Part Number 3: 1655-DSS110UCT-ND; Supplier 4: LCSC; Supplier Part Number 4: C22466354
footprint SOD-123FL
pins: 1 A, 2 K

## SMD Fuse 2A
designator F?
Fuse 2410 SMT | Quick Acting | 2A; Supplier 1: Makers; Supplier Part Number 1: https://makerselectronics.com/product/smd-fuse-fast-blow-2a-2410-50a-6-1x2-69x2-69mm; ComponentLink1Description: Makers; ComponentLink1URL: https://makerselectronics.com/product/smd-fuse-fast-blow-2a-2410-50a-6-1x2-69x2-69mm
footprint FUSC6125X279N
pins: 1, 2

## SMD Fuse 3A
designator F?
Fuse 2410 SMT | Quick Acting | 3A; Supplier 1: Makers; Supplier Part Number 1: https://makerselectronics.com/product/smd-fuse-fast-blow-3a-2410-50a-6-1x2-69x2-69mm/; ComponentLink1Description: Makers; ComponentLink1URL: https://makerselectronics.com/product/smd-fuse-fast-blow-3a-2410-50a-6-1x2-69x2-69mm/
footprint FUSC6125X279N
pins: 1, 2

## SMD POWER IND 150uH 0.5A
designator L?, comment 150uH
Fixed Inductor SMD 150uH 0.5A; ComponentLink1Description: UGE; ComponentLink1URL: https://uge-one.com/product/smd-power-inductor-150uh-4-5x4x3-2mm-cd43/
footprint IND_RLS-126-R
pins: 1, 2

## SML-310VTT86
designator D?, comment LED RED
LED RED CHIP 0604 SMD; Supplier 1: DigiKey; Supplier Part Number 1: 846-SML-310VTT86CT-ND; Supplier 2: LCSC; Supplier Part Number 2: C123009
footprint LED 0603
pins: 1 A, 2 C

## SML-D12Y1WT86
designator D?, comment LED YLW
LED YELLOW CHIP 0604 SMD; Supplier 1: DigiKey; Supplier Part Number 1: SML-D12Y1WT86CT-ND; Supplier 2: LCSC; Supplier Part Number 2: C253534
footprint LED 0603
pins: 1 A, 2 C

## SML-E12P8WT86
designator D?, comment LED GRN
LED GREEN CHIP 0604 SMD; Supplier 1: DigiKey; Supplier Part Number 1: 846-SML-E12P8WT86CT-ND; Supplier 2: LCSC; Supplier Part Number 2: C126319
footprint LED 0603
pins: 1 A, 2 C

## SMMS0650-100M
designator L?, comment 10uH 4.5A
FIXED IND 10uH 4.5A 55mΩ SMD,6.6x7.1mm; Supplier 1: DigiKey; Supplier Part Number 1: 118-SRP6030WA-100MCT-ND; Supplier 2: LCSC; Supplier Part Number 2: C149584
footprint INDUCTOR 0.280" L x 0.260" W (7.10mm x 6.60mm)
pins: 1 B, 2 A

## SMN-327
designator U?
CONN NanoSIM SMD SIM Card Connectors; Supplier 2: LCSC; Supplier Part Number 2: C390997; Supplier 1: WORLDWAY; Supplier Part Number 1: SMN-327
footprint SIM_NANO_SMN-327
pins: C1 SIM_VCC, C2 SIM_RST, C3 SIM_CLK, C5 GND, C6 SIM_VPP, C7 SIM_DATA

## SMPS ransformer 12V LG Charger
designator T?, comment Transformer 12V
Transfomer 12V LG PS
footprint Transformer 12V LG Charger
pins: 1, 2, 3, 4, 5, 6, 7 6, 8
text: N1; N2

## SMPS Transformer
designator T?  (value not drawn)
TRANSFORMER; ComponentLink1Description: Supplier Link; ComponentLink1URL: https://dechuang.en.made-in-china.com/; Supplier 1: Made In China; Supplier Part Number 1: https://dechuang.en.made-in-china.com/
footprint Transformer EE10 Footprint
pins: 1, 4, 5, 8
text: N1; N2

## SMQS-01R-TP
designator SW?, comment DIP  (value not drawn)
SWITCH DIP1pos Through Hole; Supplier 1: LCSC; Supplier Part Number 1: C5299502
footprint DIP SW TH 1way (2.54 mm compact THT with flat actuator, 1p)
pins: 1, 2
text: ON

## SMQS-04R-TP
designator SW?, comment DIP SW  (value not drawn)
SWITCH DIP 4pos 2.54mm TH; Supplier 1: LCSC; Supplier Part Number 1: C5299505
footprint DIP SW 4POS TH 2.54 (2.54 mm compact THT with flat actuator, 4p)
pins: 1, 2, 3, 4, 5, 6, 7, 8
text: ON

## SMQS-05R-TP
designator SW?, comment DIP SW  (value not drawn)
SWITCH DIP 5Pos 2.54mm TH; Supplier 1: LCSC; Supplier Part Number 1: C5299506
footprint DIP SW 5POS 2.54mm TH (2.54 mm compact THT with flat actuator, 5p)
pins: 1, 2, 3, 4, 5, 6, 7, 8, 9, 10
text: ON

## SN65HVD75DR
designator U?, comment RS485 CTRL
IC 1/1 Transceiver Half RS422, RS485 8-SOIC 3.3V; Supplier 1: DigiKey; Supplier Part Number 1: 296-38570-1-ND; Supplier 2: LCSC; Supplier Part Number 2: C57928
footprint SOIC-8 (SOIC - 1.75 mm max height / SMALL OUTLINE INTEGRATED CIRCUIT)
pins: 1 R, 2 ~{R}~{E}, 3 DE, 4 D, 5 GND, 6 A, 7 B, 8 VCC

## SN65HVD230DR
designator U?, comment CAN CTRL
IC 1/1 Transceiver Half CANbus 8-SOIC; Supplier 1: DigiKey; Supplier Part Number 1: 296-11654-6-ND; Supplier 2: LCSC; Supplier Part Number 2: C12084
footprint SOIC-8 (SOIC - 1.75 mm max height / SMALL OUTLINE INTEGRATED CIRCUIT)
pins: 1 D, 2 GND, 3 VCC, 4 R, 5 NC, 6 CANL, 7 CANH, 8 NC

## SN65HVD3082EDR
designator U?, comment RS485 TRNSV
IC 1/1 Transceiver Half RS422, RS485 8-SOIC 5V; Supplier 1: Digikey; Supplier Part Number 1: 296-31719-1-ND; Supplier 2: LCSC; Supplier Part Number 2: C6912
footprint SOIC-8 (SOIC - 1.75 mm max height / SMALL OUTLINE INTEGRATED CIRCUIT)
pins: 1 R, 2 ~{R}~{E}, 3 DE, 4 D, 5 GND, 6 A, 7 B, 8 VCC

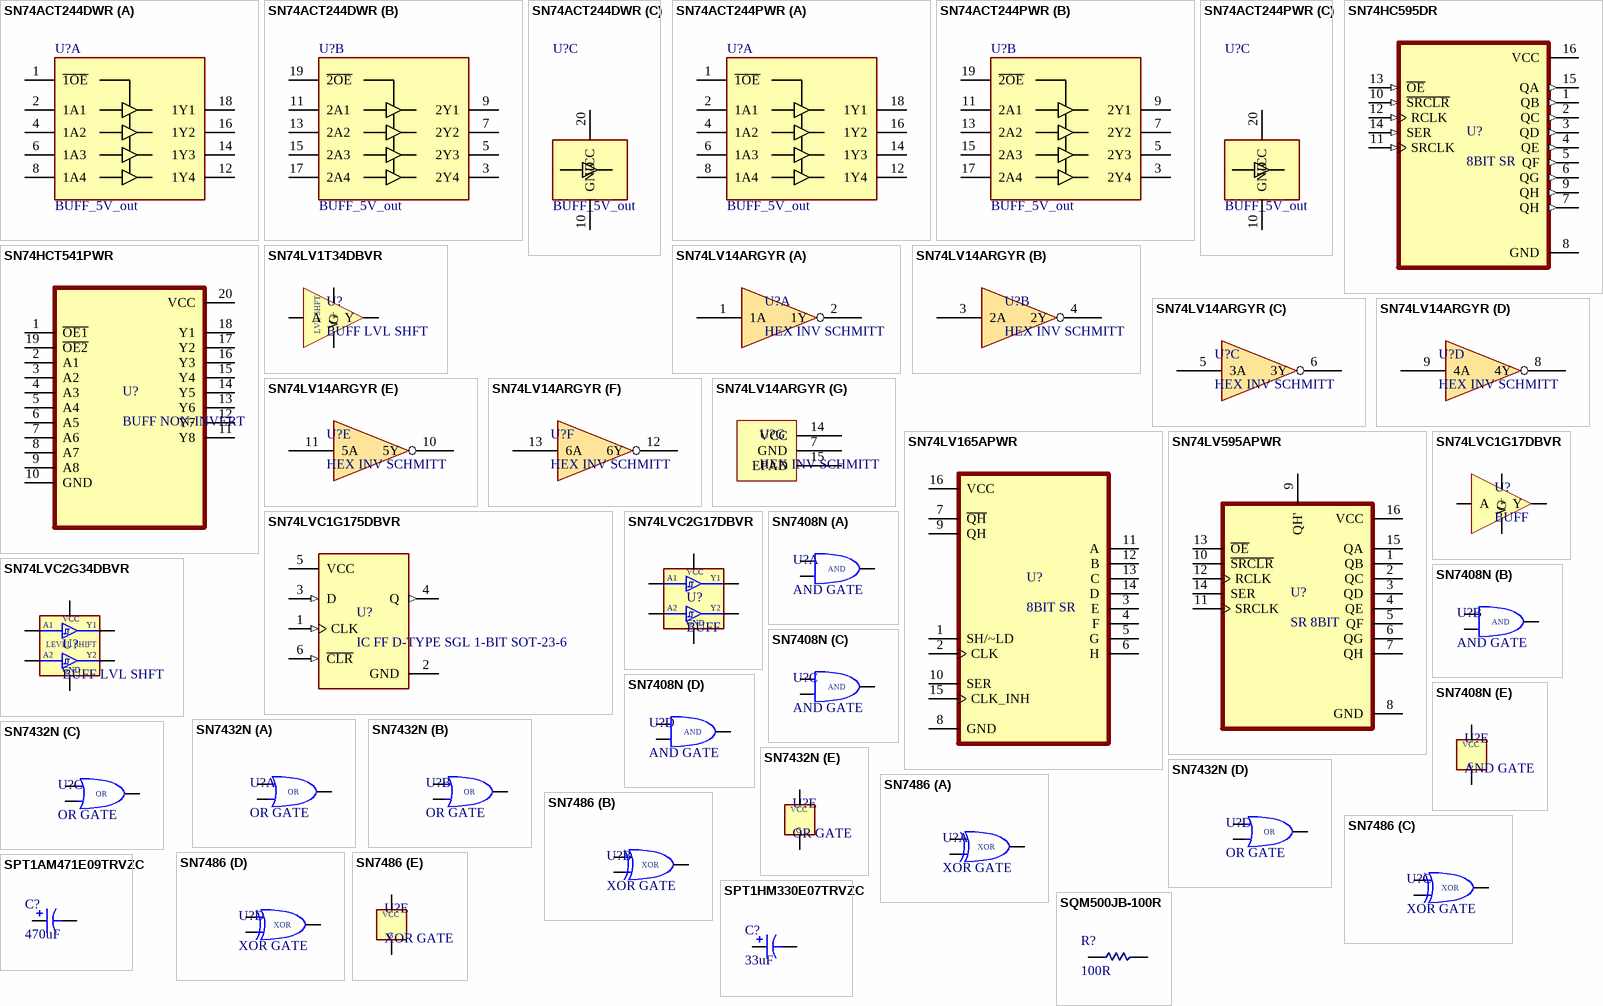
[diagram p23: symbols SN74ACT244DWR to SQM500JB-100R]

## SN74ACT244DWR
designator U?, comment BUFF_5V_out
IC BUFF NON-INVERT 5.5V 20-SOIC; Supplier 1: DigiKey; Supplier Part Number 1: 296-1070-1-ND; Supplier 2: LCSC; Supplier Part Number 2: C6928
footprint SOIC-20 TI
part A pins: 1 ~{1OE}, 2 1A1, 4 1A2, 6 1A3, 8 1A4, 12 1Y4, 14 1Y3, 16 1Y2, 18 1Y1
part B pins: 3 2Y4, 5 2Y3, 7 2Y2, 9 2Y1, 11 2A1, 13 2A2, 15 2A3, 17 2A4, 19 ~{2OE}
part C pins: 10 GND (power), 20 VCC (power)

## SN74ACT244PWR
designator U?, comment BUFF_5V_out
IC BUFF NON-INVERT 5.5V 20-TSSOP; Parameter 1: Digikey; Parameter 2: 296-1071-2-ND; Parameter 3: LCSC; Parameter 4: C6930
footprint TSSOP-20 TI
part A pins: 1 ~{1OE}, 2 1A1, 4 1A2, 6 1A3, 8 1A4, 12 1Y4, 14 1Y3, 16 1Y2, 18 1Y1
part B pins: 3 2Y4, 5 2Y3, 7 2Y2, 9 2Y1, 11 2A1, 13 2A2, 15 2A3, 17 2A4, 19 ~{2OE}
part C pins: 10 GND (power), 20 VCC (power)

## SN74HC595DR
designator U?, comment 8BIT SR
IC SHIFT REISTER 8-bit  with 3-state output registers; Supplier 1: DigiKey; Supplier Part Number 1: 296-14857-1-ND; Supplier 2: LCSC; Supplier Part Number 2: C10092; ComponentLink1Description: RAM; ComponentLink1URL: https://www.ram-e-shop.com/shop/smd-74hc595-smd-74hc595-5762
footprint SOIC-16
pins: 1 QB (out), 2 QC (out), 3 QD (out), 4 QE (out), 5 QF (out), 6 QG (out), 7 QH (out), 8 GND (power), 9 QH (out), 10 ~{SRCLR} (in), 11 SRCLK (in), 12 RCLK (in), 13 ~{OE} (in), 14 SER (in), 15 QA (out), 16 VCC (power)

## SN74HCT541PWR
designator U?, comment BUFF NON-INVERT
IC BUFF NON-INVERT 5.5V 20-TSSOP; Supplier 1: DigiKey; Supplier Part Number 1: 296-26499-1-ND; Supplier 2: LCSC; Supplier Part Number 2: C436096
footprint TSSOP-20 TI
pins: 1 ~{OE1}, 2 A1, 3 A2, 4 A3, 5 A4, 6 A5, 7 A6, 8 A7, 9 A8, 10 GND, 11 Y8, 12 Y7, 13 Y6, 14 Y5, 15 Y4, 16 Y3, 17 Y2, 18 Y1, 19 ~{OE2}, 20 VCC (power)

## SN74LV1T34DBVR
designator U?, comment BUFF LVL SHFT
IC BUFF LEVEL SHIFT NON-INVERT 5.5V SOT-23-5; Supplier 1: DigiKey; Supplier Part Number 1: 296-37176-1-ND; Supplier 2: LCSC; Supplier Part Number 2: C100024
footprint SOT23-5 TI
pins: 2 A, 3 G (power), 4 Y, 5 V+ (power)
text: LVL SHFT

## SN74LV14ARGYR
designator U?, comment HEX INV SCHMITT
IC IC INVERTER 6CH 1-INP 14TVSOP VCC 2V-5V; Supplier 1: WORLDWAY; Supplier Part Number 1: SN74LV14ARGYR; Supplier 2: LCSC; Supplier Part Number 2: C2682074
footprint VQFN-14 3.5x3.5 TI (QFN, 14-Leads, Body 3.50x3.50mm, Pitch 1.50mm/0.50mm, Thermal Pad 2.05x2.05mm, IPC Medium Density)
part A pins: 1 1A, 2 1Y
part B pins: 3 2A, 4 2Y
part C pins: 5 3A, 6 3Y
part D pins: 8 4Y, 9 4A
part E pins: 10 5Y, 11 5A
part F pins: 12 6Y, 13 6A
part G pins: 7 GND, 14 VCC, 15 EPAD

## SN74LV165APWR
designator U?, comment 8BIT SR
IC SHIFT REISTER 8-bit  with 3-state output registers; Supplier 1: DigiKey; Supplier Part Number 1: 296-3790-1-ND; Supplier 2: LCSC; Supplier Part Number 2: C201716
footprint TSSOP-16 TI
pins: 1 SH/~LD, 2 CLK, 3 E, 4 F, 5 G, 6 H, 7 ~{QH}, 8 GND (power), 9 QH, 10 SER, 11 A, 12 B, 13 C, 14 D, 15 CLK_INH, 16 VCC (power)

## SN74LV595APWR
designator U?, comment SR 8BIT
IC  Shift Registers  8-Bit With 3-State Output Registers 16-TSSOP -40 to 125; Supplier 1: DigiKey; Supplier Part Number 1: 296-3843-1-ND; Supplier 2: LCSC; Supplier Part Number 2: C116847
footprint TSSOP-16 TI
pins: 1 QB, 2 QC, 3 QD, 4 QE, 5 QF, 6 QG, 7 QH, 8 GND (power), 9 QH', 10 ~{SRCLR}, 11 SRCLK, 12 RCLK, 13 ~{OE}, 14 SER, 15 QA, 16 VCC (power)

## SN74LVC1G17DBVR
designator U?, comment BUFF
IC BUFF NON-INVERT 5.5V SOT-23-5; Supplier 1: Digikey; Supplier Part Number 1: 296-11933-1-ND; Supplier 2: LCSC; Supplier Part Number 2: C7836
footprint SOT23-5 TI
pins: 2 A, 3 G (power), 4 Y, 5 V+ (power)

## SN74LVC1G175DBVR
designator U?, comment IC FF D-TYPE SGL 1-BIT SOT-23-6
IC Flip Flop 1 Element D-Type 1 Bit Positive Edge SOT-23-6; Supplier 1: DigiKey; Supplier Part Number 1: 296-17617-1-ND; Supplier 2: LCSC; Supplier Part Number 2: C128412
footprint SOT23-6 TI
pins: 1 CLK (in), 2 GND (power), 3 D (in), 4 Q (out), 5 VCC (power), 6 ~{CLR} (in)

## SN74LVC2G17DBVR
designator U?, comment BUFF
IC BUFF NON-INVERT 5.5V SOT-23-6; Supplier 1: Digikey; Supplier Part Number 1: 296-SN74LVC2G17DBVRCT-ND; Supplier 2: LCSC; Supplier Part Number 2: C10429
footprint SOT23-6 TI
pins: 1 A1, 2 G (power), 3 A2, 4 Y2, 5 V+ (power), 6 Y1
text: VCC; GND

## SN74LVC2G34DBVR
designator U?, comment BUFF LVL SHFT
IC BUFF LEVEL SHIFT NON-INVERT 5.5V SOT-23-6; Supplier 1: DigiKey; Supplier Part Number 1: 296-13496-1-ND; Supplier 2: LCSC; Supplier Part Number 2: C347589
footprint SOT23-6 TI
pins: 1 A1, 2 G (power), 3 A2, 4 Y2, 5 V+ (power), 6 Y1
text: VCC; LEVEL SHIFT; GND

## SN7408N
designator U?, comment AND GATE
IC LOGIC GATE AND 4CH 2-INP 14DIP
footprint DIP_300_14
part A pins: 1 1A, 2 1B, 3 1C
part B pins: 4 2A, 5 2B, 6 2Y
part C pins: 8 3C, 9 3A, 10 3B
part D pins: 11 4C, 12 4A, 13 4B
part E pins: 7 GND, 14 VCC
part A text: AND
part B text: AND
part C text: AND
part D text: AND
part E text: G

## SN7432N
designator U?, comment OR GATE
IC LOGIC GATE OR 4CH 2-INP 14DIP
footprint DIP_300_14
part A pins: 1 1A, 2 1B, 3 1C
part B pins: 4 2A, 5 2B, 6 2Y
part C pins: 8 3C, 9 3A, 10 3B
part D pins: 11 4C, 12 4A, 13 4B
part E pins: 7 GND, 14 VCC
part A text: OR
part B text: OR
part C text: OR
part D text: OR
part E text: G

## SN7486
designator U?, comment XOR GATE
IC LOGIC GATE XOR 4CH 2-INP 14DIP
footprint DIP_300_14
part A pins: 1 1A, 2 1B, 3 1C
part B pins: 4 2A, 5 2B, 6 2Y
part C pins: 8 3C, 9 3A, 10 3B
part D pins: 11 4C, 12 4A, 13 4B
part E pins: 7 GND, 14 VCC
part A text: XOR
part B text: XOR
part C text: XOR
part D text: XOR
part E text: G

## SPT1AM471E09TRVZC
designator C?, comment 470uF
CAP ALUM POLY 470uF ±20% 10V SMD; Supplier 1: WORLDWAY; Supplier Part Number 1: SPT1AM471E09TRVZC; Supplier 2: LCSC; Supplier Part Number 2: C41410213
footprint CAP ALSMD ELEC 6.6MM H9MM (Aluminum SMD Electrolytic Capacitor, 6.60mm Land Size, 6.30mm Diameter, 9.00mm Height, 8.00mm Maximum Leads Span)
pins: 1, 2

## SPT1HM330E07TRVZC
designator C?, comment 33uF
CAP ALUM POLY 33uF ±20% 50V SMD; Supplier 1: WORLDWAY; Supplier Part Number 1: SPT1HM330E07TRVZC; Supplier 2: LCSC; Supplier Part Number 2: C41410184
footprint CAP ALSMD ELEC 6.6MM H7MM (Aluminum SMD Electrolytic Capacitor, 6.60mm Land Size, 6.30mm Diameter, 7.00mm Height, 8.00mm Maximum Leads Span)
pins: 1, 2